# EAGLE library part RPI-CONNECTOR (library hats)
0.1" spaced headers
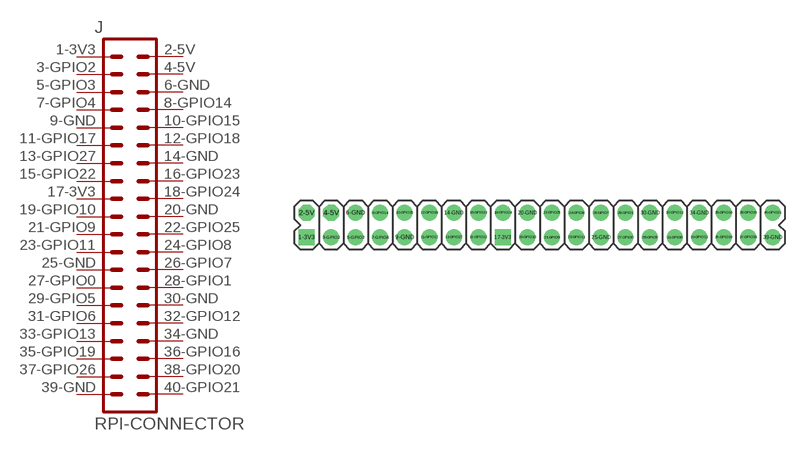
[diagram p0: symbol with the pads of RPI-2X20; footprint RPI-2X20]

Designator prefix J

## RPI-CONNECTOR  [RPI-2X20]
1-3V3  3V3  pwr
2-5V  5V  pwr
3-GPIO2  GPIO2
4-5V  5V  pwr
5-GPIO3  GPIO3
6-GND  GND  pwr
7-GPIO4  GPIO4
8-GPIO14  GPIO14
9-GND  GND  pwr
10-GPIO15  GPIO15
11-GPIO17  GPIO17
12-GPIO18  GPIO18
13-GPIO27  GPIO27
14-GND  GND  pwr
15-GPIO22  GPIO22
16-GPIO23  GPIO23
17-3V3  3V3  pwr
18-GPIO24  GPIO24
19-GPIO10  GPIO10
20-GND  GND  pwr
21-GPIO9  GPIO9
22-GPIO25  GPIO25
23-GPIO11  GPIO11
24-GPIO8  GPIO8
25-GND  GND  pwr
26-GPIO7  GPIO7
27-GPIO0  GPIO0
28-GPIO1  GPIO1
29-GPIO5  GPIO5
30-GND  GND  pwr
31-GPIO6  GPIO6
32-GPIO12  GPIO12
33-GPIO13  GPIO13
34-GND  GND  pwr
35-GPIO19  GPIO19
36-GPIO16  GPIO16
37-GPIO26  GPIO26
38-GPIO20  GPIO20
39-GND  GND  pwr
40-GPIO21  GPIO21

## Footprint RPI-2X20 (pad centres in mm)
drill 1.016 pad 1.651 square: 1-3V3 -24.13,-1.27; 17-3V3 -3.81,-1.27
drill 1.016 pad 1.651 octagon: 2-5V -24.13,1.27; 4-5V -21.59,1.27
drill 1.016 pad 1.651: 3-GPIO2 -21.59,-1.27; 5-GPIO3 -19.05,-1.27; 6-GND -19.05,1.27; 7-GPIO4 -16.51,-1.27; 8-GPIO14 -16.51,1.27; 9-GND -13.97,-1.27; 10-GPIO15 -13.97,1.27; 11-GPIO17 -11.43,-1.27; 12-GPIO18 -11.43,1.27; 13-GPIO27 -8.89,-1.27; 14-GND -8.89,1.27; 15-GPIO22 -6.35,-1.27; 16-GPIO23 -6.35,1.27; 18-GPIO24 -3.81,1.27; 19-GPIO10 -1.27,-1.27; 20-GND -1.27,1.27; 21-GPIO9 1.27,-1.27; 22-GPIO25 1.27,1.27; 23-GPIO11 3.81,-1.27; 24-GPIO8 3.81,1.27; 25-GND 6.35,-1.27; 26-GPIO7 6.35,1.27; 27-GPIO0 8.89,-1.27; 28-GPIO1 8.89,1.27; 29-GPIO5 11.43,-1.27; 30-GND 11.43,1.27; 31-GPIO6 13.97,-1.27; 32-GPIO12 13.97,1.27; 33-GPIO13 16.51,-1.27; 34-GND 16.51,1.27; 35-GPIO19 19.05,-1.27; 36-GPIO16 19.05,1.27; 37-GPIO26 21.59,-1.27; 38-GPIO20 21.59,1.27; 39-GND 24.13,-1.27; 40-GPIO21 24.13,1.27